# Altium footprint library ledclock-yassinn-V1.00.PcbLib: 13 footprints
Each footprint in its own frame and in the unit in brackets; x right, y up, seen from the top. Pads: shape width x height; smd on the part's side, far side on the other; paste and mask are expansions set on the pad; w line width, h text height; cw(c..) or ccw(c..) is an arc to the next point about the centre after c.
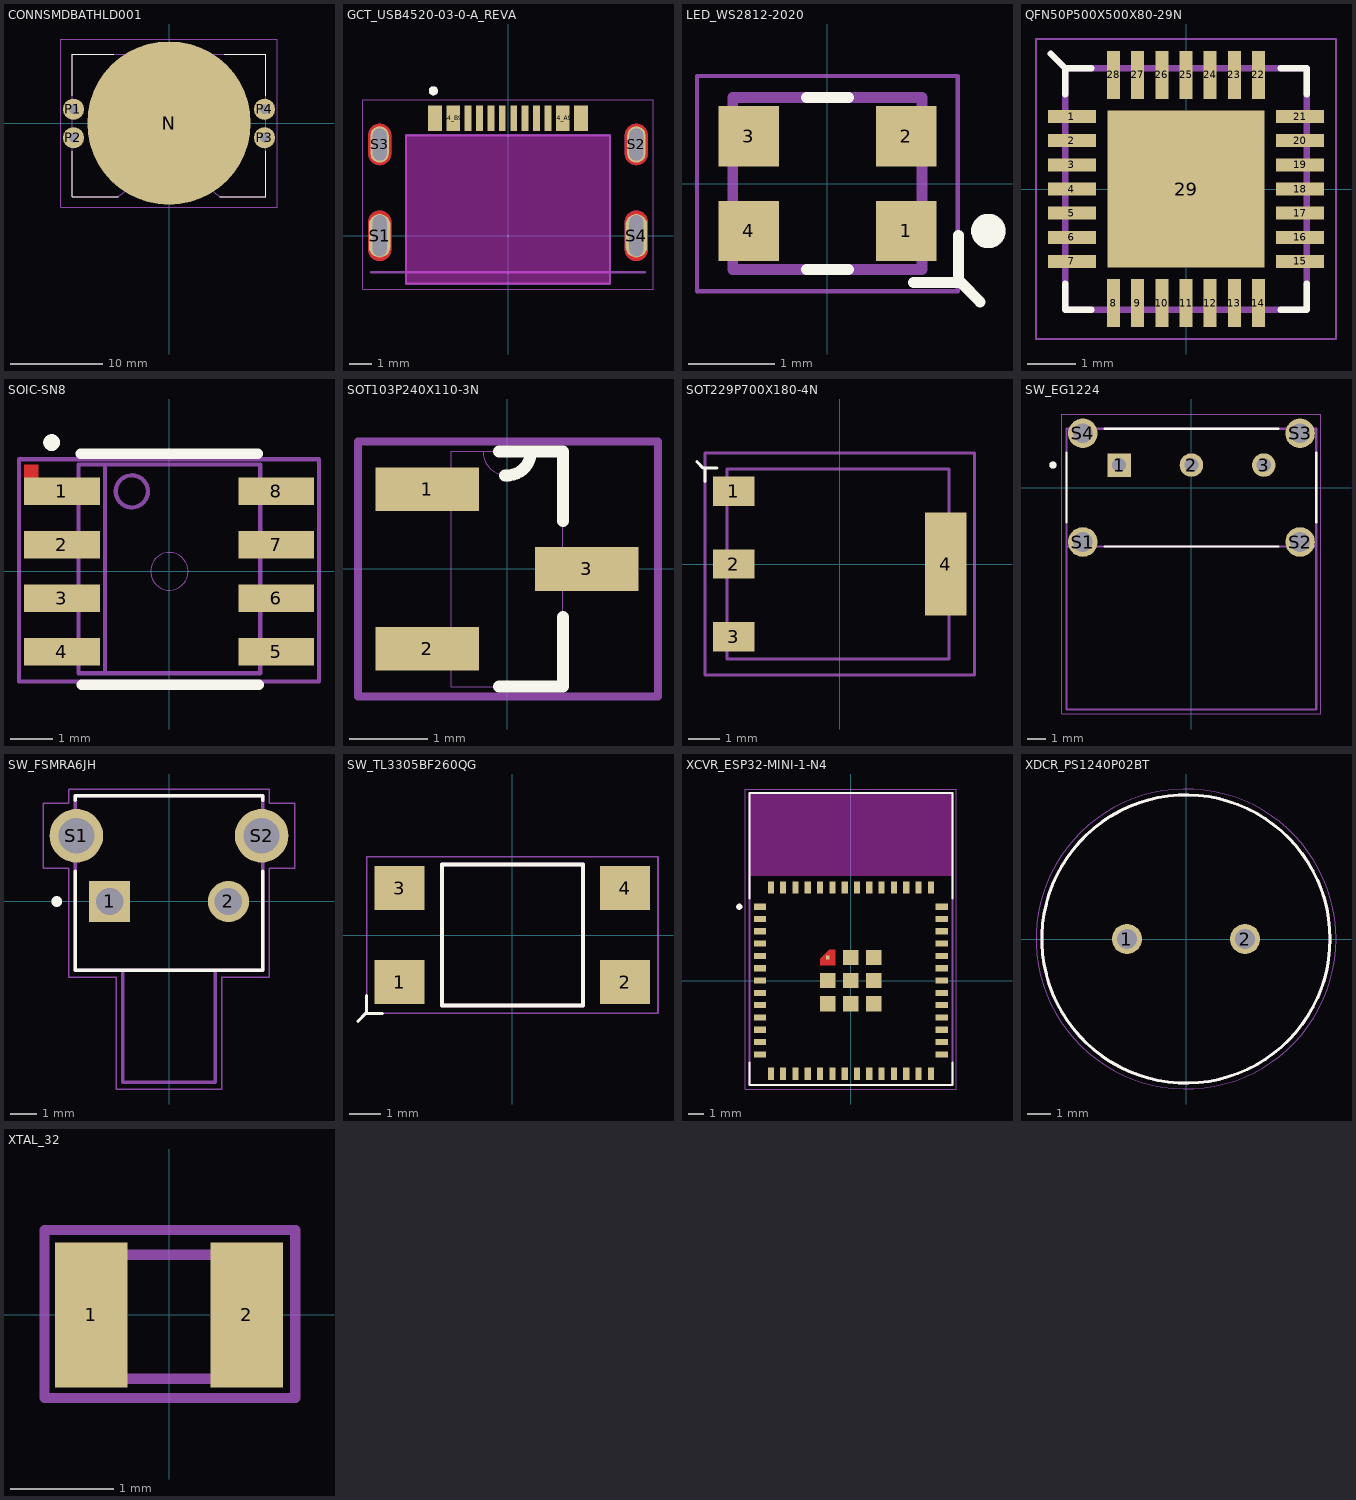
[diagram p0: the footprints below, top view; thin cyan lines are the x and y axes]

## CONNSMDBATHLD001 [mm] "Batt-Holder"
pads (5):
  round 17.8 smd paste-10: N(-0.007,0.005)
  round 2.3 hole 1: P1(-10.407,1.505) P2(-10.407,-1.595) P3(10.393,-1.595) P4(10.393,1.505)
Top Overlay:
  lines w0.127: -10.557,-3.065 -10.557,-7.995 -5.507,-7.995 ; -10.557,2.975 -10.557,7.505 -6.007,7.505 ; 5.493,-7.995 10.543,-7.995 10.543,-3.065 ; 5.993,7.505 10.543,7.505 10.543,2.975
Top Assembly:
  lines w0.127: -5.565,-8.043 cw(c0.064,-14.751) 0.064,-5.995 ; -5.507,-7.995 -10.557,-7.995 -10.557,7.505 10.543,7.505 10.543,-7.995 5.493,-7.995 ; -0.078,-5.995 cw(c-0.078,-14.751) 5.551,-8.043
  text ".Designator" at -4.447,11.12 h0.8
Top Courtyard:
  lines w0.05: -11.807,-9.145 -11.807,9.155 11.793,9.155 11.793,-9.145 -11.807,-9.145
3D body "step_temp.STEP": height 4.32, standoff -3.3, extent -10.548,-7.742 10.534,7.752

## GCT_USB4520-03-0-A_REVA [mm] "USB-C"
pads (16):
  rect 0.6x1.1 smd: A1_B12(-3.2,5.15) A4_B9(-2.4,5.15) B1_A12(3.2,5.15) B4_A9(2.4,5.15)
  rect 0.3x1.1 smd: A5(-1.25,5.15) A6(-0.25,5.15) A7(0.25,5.15) A8(1.25,5.15) B5(1.75,5.15) B6(0.75,5.15) B7(-0.75,5.15) B8(-1.75,5.15)
  oval 0.95x1.9 hole 0.6 slot 1.8 at 90 deg mask+0: S1(-5.62,0) S4(5.62,0)
  oval 0.8x1.6 hole 0.6 slot 1.4 at 90 deg mask+0: S2(5.62,4) S3(-5.62,4)
Top Layer:
  region: -5.594,4.899 -5.568,4.897 -5.542,4.894 -5.516,4.889 -5.491,4.883 -5.465,4.876 -5.441,4.867 -5.417,4.857 -5.393,4.846 -5.37,4.833 -5.348,4.819 -5.326,4.805 -5.305,4.789 -5.285,4.772 -5.266,4.754 -5.248,4.735 -5.231,4.715 -5.215,4.694 -5.201,4.672 -5.187,4.65 -5.174,4.627 -5.163,4.603 -5.153,4.579 -5.144,4.555 -5.137,4.529 -5.131,4.504 -5.126,4.478 -5.123,4.452 -5.121,4.426 -5.12,4.4 -5.12,3.6 -5.121,3.574 -5.123,3.548 -5.126,3.522 -5.131,3.496 -5.137,3.471 -5.144,3.445 -5.153,3.421 -5.163,3.397 -5.174,3.373 -5.187,3.35 -5.201,3.328 -5.215,3.306 -5.231,3.285 -5.248,3.265 -5.266,3.246 -5.285,3.228 -5.305,3.211 -5.326,3.195 -5.348,3.181 -5.37,3.167 -5.393,3.154 -5.417,3.143 -5.441,3.133 -5.465,3.124 -5.491,3.117 -5.516,3.111 -5.542,3.106 -5.568,3.103 -5.594,3.101 -5.62,3.1 -5.646,3.101 -5.672,3.103 -5.698,3.106 -5.724,3.111 -5.749,3.117 -5.775,3.124 -5.799,3.133 -5.823,3.143 -5.847,3.154 -5.87,3.167 -5.892,3.181 -5.914,3.195 -5.935,3.211 -5.955,3.228 -5.974,3.246 -5.992,3.265 -6.009,3.285 -6.025,3.306 -6.039,3.328 -6.053,3.35 -6.066,3.373 -6.077,3.397 -6.087,3.421 -6.096,3.445 -6.103,3.471 -6.109,3.496 -6.114,3.522 -6.117,3.548 -6.119,3.574 -6.12,3.6 -6.12,4.4 -6.119,4.426 -6.117,4.452 -6.114,4.478 -6.109,4.504 -6.103,4.529 -6.096,4.555 -6.087,4.579 -6.077,4.603 -6.066,4.627 -6.053,4.65 -6.039,4.672 -6.025,4.694 -6.009,4.715 -5.992,4.735 -5.974,4.754 -5.955,4.772 -5.935,4.789 -5.914,4.805 -5.892,4.819 -5.87,4.833 -5.847,4.846 -5.823,4.857 -5.799,4.867 -5.775,4.876 -5.749,4.883 -5.724,4.889 -5.698,4.894 -5.672,4.897 -5.646,4.899 -5.62,4.9
  region: 5.646,4.899 5.672,4.897 5.698,4.894 5.724,4.889 5.749,4.883 5.775,4.876 5.799,4.867 5.823,4.857 5.847,4.846 5.87,4.833 5.892,4.819 5.914,4.805 5.935,4.789 5.955,4.772 5.974,4.754 5.992,4.735 6.009,4.715 6.025,4.694 6.039,4.672 6.053,4.65 6.066,4.627 6.077,4.603 6.087,4.579 6.096,4.555 6.103,4.529 6.109,4.504 6.114,4.478 6.117,4.452 6.119,4.426 6.12,4.4 6.12,3.6 6.119,3.574 6.117,3.548 6.114,3.522 6.109,3.496 6.103,3.471 6.096,3.445 6.087,3.421 6.077,3.397 6.066,3.373 6.053,3.35 6.039,3.328 6.025,3.306 6.009,3.285 5.992,3.265 5.974,3.246 5.955,3.228 5.935,3.211 5.914,3.195 5.892,3.181 5.87,3.167 5.847,3.154 5.823,3.143 5.799,3.133 5.775,3.124 5.749,3.117 5.724,3.111 5.698,3.106 5.672,3.103 5.646,3.101 5.62,3.1 5.594,3.101 5.568,3.103 5.542,3.106 5.516,3.111 5.491,3.117 5.465,3.124 5.441,3.133 5.417,3.143 5.393,3.154 5.37,3.167 5.348,3.181 5.326,3.195 5.305,3.211 5.285,3.228 5.266,3.246 5.248,3.265 5.231,3.285 5.215,3.306 5.201,3.328 5.187,3.35 5.174,3.373 5.163,3.397 5.153,3.421 5.144,3.445 5.137,3.471 5.131,3.496 5.126,3.522 5.123,3.548 5.121,3.574 5.12,3.6 5.12,4.4 5.121,4.426 5.123,4.452 5.126,4.478 5.131,4.504 5.137,4.529 5.144,4.555 5.153,4.579 5.163,4.603 5.174,4.627 5.187,4.65 5.201,4.672 5.215,4.694 5.231,4.715 5.248,4.735 5.266,4.754 5.285,4.772 5.305,4.789 5.326,4.805 5.348,4.819 5.37,4.833 5.393,4.846 5.417,4.857 5.441,4.867 5.465,4.876 5.491,4.883 5.516,4.889 5.542,4.894 5.568,4.897 5.594,4.899 5.62,4.9
  region: -5.594,1.099 -5.568,1.097 -5.542,1.094 -5.516,1.089 -5.491,1.083 -5.465,1.076 -5.441,1.067 -5.417,1.057 -5.393,1.046 -5.37,1.033 -5.348,1.019 -5.326,1.005 -5.305,0.989 -5.285,0.972 -5.266,0.954 -5.248,0.935 -5.231,0.915 -5.215,0.894 -5.201,0.872 -5.187,0.85 -5.174,0.827 -5.163,0.803 -5.153,0.779 -5.144,0.755 -5.137,0.729 -5.131,0.704 -5.126,0.678 -5.123,0.652 -5.121,0.626 -5.12,0.6 -5.12,-0.6 -5.121,-0.626 -5.123,-0.652 -5.126,-0.678 -5.131,-0.704 -5.137,-0.729 -5.144,-0.755 -5.153,-0.779 -5.163,-0.803 -5.174,-0.827 -5.187,-0.85 -5.201,-0.872 -5.215,-0.894 -5.231,-0.915 -5.248,-0.935 -5.266,-0.954 -5.285,-0.972 -5.305,-0.989 -5.326,-1.005 -5.348,-1.019 -5.37,-1.033 -5.393,-1.046 -5.417,-1.057 -5.441,-1.067 -5.465,-1.076 -5.491,-1.083 -5.516,-1.089 -5.542,-1.094 -5.568,-1.097 -5.594,-1.099 -5.62,-1.1 -5.646,-1.099 -5.672,-1.097 -5.698,-1.094 -5.724,-1.089 -5.749,-1.083 -5.775,-1.076 -5.799,-1.067 -5.823,-1.057 -5.847,-1.046 -5.87,-1.033 -5.892,-1.019 -5.914,-1.005 -5.935,-0.989 -5.955,-0.972 -5.974,-0.954 -5.992,-0.935 -6.009,-0.915 -6.025,-0.894 -6.039,-0.872 -6.053,-0.85 -6.066,-0.827 -6.077,-0.803 -6.087,-0.779 -6.096,-0.755 -6.103,-0.729 -6.109,-0.704 -6.114,-0.678 -6.117,-0.652 -6.119,-0.626 -6.12,-0.6 -6.12,0.6 -6.119,0.626 -6.117,0.652 -6.114,0.678 -6.109,0.704 -6.103,0.729 -6.096,0.755 -6.087,0.779 -6.077,0.803 -6.066,0.827 -6.053,0.85 -6.039,0.872 -6.025,0.894 -6.009,0.915 -5.992,0.935 -5.974,0.954 -5.955,0.972 -5.935,0.989 -5.914,1.005 -5.892,1.019 -5.87,1.033 -5.847,1.046 -5.823,1.057 -5.799,1.067 -5.775,1.076 -5.749,1.083 -5.724,1.089 -5.698,1.094 -5.672,1.097 -5.646,1.099 -5.62,1.1
  region: 5.646,1.099 5.672,1.097 5.698,1.094 5.724,1.089 5.749,1.083 5.775,1.076 5.799,1.067 5.823,1.057 5.847,1.046 5.87,1.033 5.892,1.019 5.914,1.005 5.935,0.989 5.955,0.972 5.974,0.954 5.992,0.935 6.009,0.915 6.025,0.894 6.039,0.872 6.053,0.85 6.066,0.827 6.077,0.803 6.087,0.779 6.096,0.755 6.103,0.729 6.109,0.704 6.114,0.678 6.117,0.652 6.119,0.626 6.12,0.6 6.12,-0.6 6.119,-0.626 6.117,-0.652 6.114,-0.678 6.109,-0.704 6.103,-0.729 6.096,-0.755 6.087,-0.779 6.077,-0.803 6.066,-0.827 6.053,-0.85 6.039,-0.872 6.025,-0.894 6.009,-0.915 5.992,-0.935 5.974,-0.954 5.955,-0.972 5.935,-0.989 5.914,-1.005 5.892,-1.019 5.87,-1.033 5.847,-1.046 5.823,-1.057 5.799,-1.067 5.775,-1.076 5.749,-1.083 5.724,-1.089 5.698,-1.094 5.672,-1.097 5.646,-1.099 5.62,-1.1 5.594,-1.099 5.568,-1.097 5.542,-1.094 5.516,-1.089 5.491,-1.083 5.465,-1.076 5.441,-1.067 5.417,-1.057 5.393,-1.046 5.37,-1.033 5.348,-1.019 5.326,-1.005 5.305,-0.989 5.285,-0.972 5.266,-0.954 5.248,-0.935 5.231,-0.915 5.215,-0.894 5.201,-0.872 5.187,-0.85 5.174,-0.827 5.163,-0.803 5.153,-0.779 5.144,-0.755 5.137,-0.729 5.131,-0.704 5.126,-0.678 5.123,-0.652 5.121,-0.626 5.12,-0.6 5.12,0.6 5.121,0.626 5.123,0.652 5.126,0.678 5.131,0.704 5.137,0.729 5.144,0.755 5.153,0.779 5.163,0.803 5.174,0.827 5.187,0.85 5.201,0.872 5.215,0.894 5.231,0.915 5.248,0.935 5.266,0.954 5.285,0.972 5.305,0.989 5.326,1.005 5.348,1.019 5.37,1.033 5.393,1.046 5.417,1.057 5.441,1.067 5.465,1.076 5.491,1.083 5.516,1.089 5.542,1.094 5.568,1.097 5.594,1.099 5.62,1.1
Bottom Layer:
  region: -5.594,4.899 -5.568,4.897 -5.542,4.894 -5.516,4.889 -5.491,4.883 -5.465,4.876 -5.441,4.867 -5.417,4.857 -5.393,4.846 -5.37,4.833 -5.348,4.819 -5.326,4.805 -5.305,4.789 -5.285,4.772 -5.266,4.754 -5.248,4.735 -5.231,4.715 -5.215,4.694 -5.201,4.672 -5.187,4.65 -5.174,4.627 -5.163,4.603 -5.153,4.579 -5.144,4.555 -5.137,4.529 -5.131,4.504 -5.126,4.478 -5.123,4.452 -5.121,4.426 -5.12,4.4 -5.12,3.6 -5.121,3.574 -5.123,3.548 -5.126,3.522 -5.131,3.496 -5.137,3.471 -5.144,3.445 -5.153,3.421 -5.163,3.397 -5.174,3.373 -5.187,3.35 -5.201,3.328 -5.215,3.306 -5.231,3.285 -5.248,3.265 -5.266,3.246 -5.285,3.228 -5.305,3.211 -5.326,3.195 -5.348,3.181 -5.37,3.167 -5.393,3.154 -5.417,3.143 -5.441,3.133 -5.465,3.124 -5.491,3.117 -5.516,3.111 -5.542,3.106 -5.568,3.103 -5.594,3.101 -5.62,3.1 -5.646,3.101 -5.672,3.103 -5.698,3.106 -5.724,3.111 -5.749,3.117 -5.775,3.124 -5.799,3.133 -5.823,3.143 -5.847,3.154 -5.87,3.167 -5.892,3.181 -5.914,3.195 -5.935,3.211 -5.955,3.228 -5.974,3.246 -5.992,3.265 -6.009,3.285 -6.025,3.306 -6.039,3.328 -6.053,3.35 -6.066,3.373 -6.077,3.397 -6.087,3.421 -6.096,3.445 -6.103,3.471 -6.109,3.496 -6.114,3.522 -6.117,3.548 -6.119,3.574 -6.12,3.6 -6.12,4.4 -6.119,4.426 -6.117,4.452 -6.114,4.478 -6.109,4.504 -6.103,4.529 -6.096,4.555 -6.087,4.579 -6.077,4.603 -6.066,4.627 -6.053,4.65 -6.039,4.672 -6.025,4.694 -6.009,4.715 -5.992,4.735 -5.974,4.754 -5.955,4.772 -5.935,4.789 -5.914,4.805 -5.892,4.819 -5.87,4.833 -5.847,4.846 -5.823,4.857 -5.799,4.867 -5.775,4.876 -5.749,4.883 -5.724,4.889 -5.698,4.894 -5.672,4.897 -5.646,4.899 -5.62,4.9
  region: 5.646,4.899 5.672,4.897 5.698,4.894 5.724,4.889 5.749,4.883 5.775,4.876 5.799,4.867 5.823,4.857 5.847,4.846 5.87,4.833 5.892,4.819 5.914,4.805 5.935,4.789 5.955,4.772 5.974,4.754 5.992,4.735 6.009,4.715 6.025,4.694 6.039,4.672 6.053,4.65 6.066,4.627 6.077,4.603 6.087,4.579 6.096,4.555 6.103,4.529 6.109,4.504 6.114,4.478 6.117,4.452 6.119,4.426 6.12,4.4 6.12,3.6 6.119,3.574 6.117,3.548 6.114,3.522 6.109,3.496 6.103,3.471 6.096,3.445 6.087,3.421 6.077,3.397 6.066,3.373 6.053,3.35 6.039,3.328 6.025,3.306 6.009,3.285 5.992,3.265 5.974,3.246 5.955,3.228 5.935,3.211 5.914,3.195 5.892,3.181 5.87,3.167 5.847,3.154 5.823,3.143 5.799,3.133 5.775,3.124 5.749,3.117 5.724,3.111 5.698,3.106 5.672,3.103 5.646,3.101 5.62,3.1 5.594,3.101 5.568,3.103 5.542,3.106 5.516,3.111 5.491,3.117 5.465,3.124 5.441,3.133 5.417,3.143 5.393,3.154 5.37,3.167 5.348,3.181 5.326,3.195 5.305,3.211 5.285,3.228 5.266,3.246 5.248,3.265 5.231,3.285 5.215,3.306 5.201,3.328 5.187,3.35 5.174,3.373 5.163,3.397 5.153,3.421 5.144,3.445 5.137,3.471 5.131,3.496 5.126,3.522 5.123,3.548 5.121,3.574 5.12,3.6 5.12,4.4 5.121,4.426 5.123,4.452 5.126,4.478 5.131,4.504 5.137,4.529 5.144,4.555 5.153,4.579 5.163,4.603 5.174,4.627 5.187,4.65 5.201,4.672 5.215,4.694 5.231,4.715 5.248,4.735 5.266,4.754 5.285,4.772 5.305,4.789 5.326,4.805 5.348,4.819 5.37,4.833 5.393,4.846 5.417,4.857 5.441,4.867 5.465,4.876 5.491,4.883 5.516,4.889 5.542,4.894 5.568,4.897 5.594,4.899 5.62,4.9
  region: 5.646,1.099 5.672,1.097 5.698,1.094 5.724,1.089 5.749,1.083 5.775,1.076 5.799,1.067 5.823,1.057 5.847,1.046 5.87,1.033 5.892,1.019 5.914,1.005 5.935,0.989 5.955,0.972 5.974,0.954 5.992,0.935 6.009,0.915 6.025,0.894 6.039,0.872 6.053,0.85 6.066,0.827 6.077,0.803 6.087,0.779 6.096,0.755 6.103,0.729 6.109,0.704 6.114,0.678 6.117,0.652 6.119,0.626 6.12,0.6 6.12,-0.6 6.119,-0.626 6.117,-0.652 6.114,-0.678 6.109,-0.704 6.103,-0.729 6.096,-0.755 6.087,-0.779 6.077,-0.803 6.066,-0.827 6.053,-0.85 6.039,-0.872 6.025,-0.894 6.009,-0.915 5.992,-0.935 5.974,-0.954 5.955,-0.972 5.935,-0.989 5.914,-1.005 5.892,-1.019 5.87,-1.033 5.847,-1.046 5.823,-1.057 5.799,-1.067 5.775,-1.076 5.749,-1.083 5.724,-1.089 5.698,-1.094 5.672,-1.097 5.646,-1.099 5.62,-1.1 5.594,-1.099 5.568,-1.097 5.542,-1.094 5.516,-1.089 5.491,-1.083 5.465,-1.076 5.441,-1.067 5.417,-1.057 5.393,-1.046 5.37,-1.033 5.348,-1.019 5.326,-1.005 5.305,-0.989 5.285,-0.972 5.266,-0.954 5.248,-0.935 5.231,-0.915 5.215,-0.894 5.201,-0.872 5.187,-0.85 5.174,-0.827 5.163,-0.803 5.153,-0.779 5.144,-0.755 5.137,-0.729 5.131,-0.704 5.126,-0.678 5.123,-0.652 5.121,-0.626 5.12,-0.6 5.12,0.6 5.121,0.626 5.123,0.652 5.126,0.678 5.131,0.704 5.137,0.729 5.144,0.755 5.153,0.779 5.163,0.803 5.174,0.827 5.187,0.85 5.201,0.872 5.215,0.894 5.231,0.915 5.248,0.935 5.266,0.954 5.285,0.972 5.305,0.989 5.326,1.005 5.348,1.019 5.37,1.033 5.393,1.046 5.417,1.057 5.441,1.067 5.465,1.076 5.491,1.083 5.516,1.089 5.542,1.094 5.568,1.097 5.594,1.099 5.62,1.1
  region: -5.594,1.099 -5.568,1.097 -5.542,1.094 -5.516,1.089 -5.491,1.083 -5.465,1.076 -5.441,1.067 -5.417,1.057 -5.393,1.046 -5.37,1.033 -5.348,1.019 -5.326,1.005 -5.305,0.989 -5.285,0.972 -5.266,0.954 -5.248,0.935 -5.231,0.915 -5.215,0.894 -5.201,0.872 -5.187,0.85 -5.174,0.827 -5.163,0.803 -5.153,0.779 -5.144,0.755 -5.137,0.729 -5.131,0.704 -5.126,0.678 -5.123,0.652 -5.121,0.626 -5.12,0.6 -5.12,-0.6 -5.121,-0.626 -5.123,-0.652 -5.126,-0.678 -5.131,-0.704 -5.137,-0.729 -5.144,-0.755 -5.153,-0.779 -5.163,-0.803 -5.174,-0.827 -5.187,-0.85 -5.201,-0.872 -5.215,-0.894 -5.231,-0.915 -5.248,-0.935 -5.266,-0.954 -5.285,-0.972 -5.305,-0.989 -5.326,-1.005 -5.348,-1.019 -5.37,-1.033 -5.393,-1.046 -5.417,-1.057 -5.441,-1.067 -5.465,-1.076 -5.491,-1.083 -5.516,-1.089 -5.542,-1.094 -5.568,-1.097 -5.594,-1.099 -5.62,-1.1 -5.646,-1.099 -5.672,-1.097 -5.698,-1.094 -5.724,-1.089 -5.749,-1.083 -5.775,-1.076 -5.799,-1.067 -5.823,-1.057 -5.847,-1.046 -5.87,-1.033 -5.892,-1.019 -5.914,-1.005 -5.935,-0.989 -5.955,-0.972 -5.974,-0.954 -5.992,-0.935 -6.009,-0.915 -6.025,-0.894 -6.039,-0.872 -6.053,-0.85 -6.066,-0.827 -6.077,-0.803 -6.087,-0.779 -6.096,-0.755 -6.103,-0.729 -6.109,-0.704 -6.114,-0.678 -6.117,-0.652 -6.119,-0.626 -6.12,-0.6 -6.12,0.6 -6.119,0.626 -6.117,0.652 -6.114,0.678 -6.109,0.704 -6.103,0.729 -6.096,0.755 -6.087,0.779 -6.077,0.803 -6.066,0.827 -6.053,0.85 -6.039,0.872 -6.025,0.894 -6.009,0.915 -5.992,0.935 -5.974,0.954 -5.955,0.972 -5.935,0.989 -5.914,1.005 -5.892,1.019 -5.87,1.033 -5.847,1.046 -5.823,1.057 -5.799,1.067 -5.775,1.076 -5.749,1.083 -5.724,1.089 -5.698,1.094 -5.672,1.097 -5.646,1.099 -5.62,1.1
Top Overlay:
  circle w0.2: c-3.27,6.35 r0.1
Top Solder:
  drawing of 4 lines, arcs and shapes, not listed
Bottom Solder:
  drawing of 4 lines, arcs and shapes, not listed
Keep-Out Layer:
  board cut-out: -4.475,-2.1 -4.475,4.4 4.475,4.4 4.475,-2.1
Top Assembly:
  circle w0.2: c-3.27,6.35 r0.1
  lines w0.1: -6,-1.6 6,-1.6 ; -4.47,-2.1 -4.47,4.4 4.47,4.4 4.47,-2.1 -4.47,-2.1
  text ".Designator" at -2.1,6.375 h0.8
Top Courtyard:
  lines w0.05: -6.37,-2.35 -6.37,5.95 6.37,5.95 6.37,-2.35 -6.37,-2.35
3D body "step_temp.STEP": height 1.06, standoff -2.1, extent -5.77,-2.1 5.77,5.1

## LED_WS2812-2020 [mm]
height 0.84
pads (4):
  rect 0.7x0.7 smd: 1(0.915,-0.55) 2(0.915,0.55) 3(-0.915,0.55) 4(-0.915,-0.55)
Top Overlay:
  circle w0.2: c1.87,-0.55 r0.1
  lines w0.127: -0.245,-1 0.245,-1 ; -0.245,1 0.245,1 ; 1.525,-0.6 1.525,-1.15 1,-1.15 1.55,-1.15 1.775,-1.375
Top Assembly:
  circle w0.2: c1.87,-0.55 r0.1
  lines w0.127: -1.1,-1 1.1,-1 1.1,1 -1.1,1 -1.1,-1
  text ".Designator" at -1.447,1.72 h0.8
Top Courtyard:
  lines w0.05: -1.515,-1.25 -1.515,1.25 1.515,1.25 1.515,-1.25 -1.515,-1.25
3D body "step_temp.STEP": height 0.84, standoff 0, extent -1.1,-1 1.1,1

## QFN50P500X500X80-29N [mm]
pads (29):
  rect 0.99x0.27 smd: 1(-2.36,1.5) 2(-2.36,1) 3(-2.36,0.5) 4(-2.36,0) 5(-2.36,-0.5) 6(-2.36,-1) 7(-2.36,-1.5) 15(2.36,-1.5) 16(2.36,-1) 17(2.36,-0.5) 18(2.36,0) 19(2.36,0.5) 20(2.36,1) 21(2.36,1.5)
  rect 0.27x0.99 smd: 8(-1.5,-2.36) 9(-1,-2.36) 10(-0.5,-2.36) 11(0,-2.36) 12(0.5,-2.36) 13(1,-2.36) 14(1.5,-2.36) 22(1.5,2.36) 23(1,2.36) 24(0.5,2.36) 25(0,2.36) 26(-0.5,2.36) 27(-1,2.36) 28(-1.5,2.36)
  rect 3.25x3.25 smd paste-0.597: 29(0,0)
Top Overlay:
  lines w0.127: -2.8,2.8 -2.5,2.5 ; -2.5,-1.955 -2.5,-2.5 -1.955,-2.5 ; -2.5,1.955 -2.5,2.5 ; -1.955,2.5 -2.5,2.5 ; 1.955,-2.5 2.5,-2.5 2.5,-1.955 ; 1.955,2.5 2.5,2.5 2.5,1.955
Top Assembly:
  lines w0.127: -2.8,2.8 -2.5,2.5 ; -2.5,2.5 -2.5,-2.5 2.5,-2.5 2.5,2.5 -2.5,2.5
  text ".Designator" at -3.047,3.52 h0.8
Top Courtyard:
  lines w0.05: -3.105,-3.105 3.105,-3.105 3.105,3.105 -3.105,3.105 -3.105,-3.105
3D body "step_temp.STEP": height 0.38, standoff -0.43, extent -2.5,-2.5 2.5,2.5

## SOIC-SN8 [mm] "RTC"
pads (8):
  rect 1.8x0.65 smd: 1(-2.55,1.9) 2(-2.55,0.63) 3(-2.55,-0.64) 4(-2.55,-1.91) 5(2.54,-1.91) 6(2.54,-0.64) 7(2.54,0.63) 8(2.54,1.9)
Top Layer:
  rectangle: -3.45,2.209 -3.1,2.535
Top Overlay:
  circle w0.2: c-2.794,3.059 r0.1
  lines w0.25: -2.1,2.795 2.1,2.795 ; -2.076,-2.691 2.124,-2.691
Top Solder:
  rectangle: -3.531,2.294 -3.023,2.624
Top Assembly:
  circle w0.1: c-0.889,1.9 r0.381
  circle w0.025: c0,0 r0.447
  lines w0.1: -1.524,-2.418 -1.524,2.535 ; -2.159,-2.418 -2.159,2.535 2.159,2.535 2.159,-2.418 -2.159,-2.418
  text ".Designator" at -4.314,-4.463 h1
Top Courtyard:
  lines w0.1: -3.569,-2.616 3.556,-2.616 3.556,2.662 -3.569,2.662 -3.569,-2.616
3D body "MS-012AA.stp": height 1.75, standoff 0, extent -3.1,-2.441 3.1,2.559

## SOT103P240X110-3N [mil] "transistor"
pads (3):
  rect 52x22 smd: 1(-40,40) 2(-40,-40) 3(40,0)
Top Overlay:
  lines w6: -4,-59 28,-59 28,-24 ; -4,59 12,59 28,59 28,24 ; -1.04,47 ccw(c0,58.96) 12,58.96
Top Assembly:
  lines w0: -28,-50 -49,-50 -49,-30 -28,-30 ; -28,-50 -28,-30 ; -28,-50 -28,-59 28,-59 28,-10 ; -28,-30 -28,30 ; -28,30 -49,30 -49,50 -28,50 ; -28,30 -28,50 ; -28,50 -28,59 -12,59 ; -12,59 ccw(c0,59) 12,59 ; -12,59 12,59 ; 12,59 28,59 28,10 ; 28,-10 49,-10 49,10 28,10 ; 28,-10 28,10
  text ".Designator" at -55.12,90.22 h31.5
Top Courtyard:
  lines w3.94: -74.8,-63.98 75.79,-63.98 75.79,63.98 -74.8,63.98 -74.8,-63.98
3D body "step_temp.STEP": height 44.09, standoff 0, extent -47.64,-59.06 47.64,59.06

## SOT229P700X180-4N [mm] "Voltage Reg"
height 1.8
pads (4):
  rect 1.31x0.93 smd: 1(-3.345,2.29) 2(-3.345,0) 3(-3.345,-2.29)
  rect 1.31x3.24 smd: 4(3.345,0)
Top Overlay:
  lines w0.1: -4.5,3.225 -4.3,3.025 -3.875,3.025 ; -4.25,2.6 -4.25,3
Top Assembly:
  lines w0.1: -3.55,-3 -3.55,3 3.45,3 3.45,-3 -3.55,-3
  text ".Designator" at -3.7,4.167 h0.8
Top Courtyard:
  lines w0.1: -4.25,-3.502 4.25,-3.502 4.25,3.502 -4.25,3.502 -4.25,-3.502
3D body "step_temp.STEP": height 1.8, standoff 0, extent -3.499,-3.251 3.499,3.251

## SW_EG1224 [mm] "Switch alim"
height 8.5
pads (7):
  rect 1.298x1.298 / inner round 1.298 / far side rect 1.298x1.298 hole 0.79: 1(-4,1.25)
  round 1.298 hole 0.79: 2(0,1.25) 3(4,1.25)
  round 1.635 hole 1.09: S1(-6,-3) S2(6,-3) S3(6,3) S4(-6,3)
Top Overlay:
  circle w0.2: c-7.65,1.25 r0.1
  lines w0.127: -6.9,-1.926 -6.9,1.926 ; -4.8,-3.25 4.8,-3.25 ; -4.8,3.25 4.8,3.25 ; 6.9,-1.926 6.9,1.926
Top Assembly:
  circle w0.2: c-7.65,1.25 r0.1
  lines w0.127: -6.9,-3.25 6.9,-3.25 ; -6.9,-3.25 -6.9,3.25 6.9,3.25 6.9,-3.25 ; -6.9,-3.25 -6.9,-12.25 6.9,-12.25 6.9,-3.25
  text ".Designator" at -6.647,4.42 h0.8
Top Courtyard:
  lines w0.05: -7.15,-12.5 7.15,-12.5 7.15,4.07 -7.15,4.07 -7.15,-12.5

## SW_FSMRA6JH [mm] "btn-modes"
height 7.01
pads (4):
  rect 1.561x1.561 / inner round 1.561 / far side rect 1.561x1.561 hole 1.041: 1(-2.25,0)
  round 1.561 hole 1.041: 2(2.25,0)
  round 2.026 hole 1.351: S1(-3.505,2.49) S2(3.505,2.49)
Top Overlay:
  circle w0.2: c-4.25,0 r0.1
  lines w0.127: -3.555,1.14 -3.555,-2.61 3.555,-2.61 3.555,1.14 ; -3.555,3.84 -3.555,4.01 3.555,4.01 3.555,3.84
Top Assembly:
  circle w0.2: c-4.25,0 r0.1
  lines w0.127: -1.755,-2.61 -1.755,-6.85 1.755,-6.85 1.755,-2.61 ; -1.755,-2.61 -3.555,-2.61 -3.555,4.01 3.555,4.01 3.555,-2.61 1.755,-2.61 ; -1.755,-2.61 1.755,-2.61
  text ".Designator" at -3.947,4.62 h0.8
Top Courtyard:
  lines w0.05: -4.77,1.264 -4.77,3.717 -3.805,3.717 -3.805,4.26 3.805,4.26 3.805,3.717 4.77,3.717 4.77,1.264 3.805,1.264 3.805,-2.86 2.005,-2.86 2.005,-7.1 -2.005,-7.1 -2.005,-2.86 -3.805,-2.86 -3.805,1.264 -4.77,1.264
3D body "step_temp.STEP": height 7, standoff -3.52, extent -4.204,-6.742 4.204,4.117

## SW_TL3305BF260QG [mm]
height 5
pads (4):
  rect 1.6x1.4 smd: 1(-3.6,-1.5) 2(3.6,-1.5) 3(-3.6,1.5) 4(3.6,1.5)
Top Overlay:
  lines w0.1: -4.925,-2.75 -4.675,-2.5 -4.15,-2.5 -4.625,-2.5 -4.65,-2.475 -4.65,-1.925
  lines w0.127: -2.25,-2.25 -2.25,2.25 2.25,2.25 2.25,-2.25 -2.25,-2.25
Top Assembly:
  lines w0.127: -2.25,-2.25 2.25,-2.25 2.25,2.25 -2.25,2.25 -2.25,-2.25
  text ".Designator" at -4.247,2.92 h0.8
Top Courtyard:
  lines w0.05: -4.65,-2.5 4.65,-2.5 4.65,2.5 -4.65,2.5 -4.65,-2.5
3D body "step_temp.STEP": height 5, standoff 0, extent -3.75,-2.25 3.75,2.25

## XCVR_ESP32-MINI-1-N4 [mm]
height 2.65
pads (63):
  rect 0.8x0.4 smd: 1(-5.9,4.8) 2(-5.9,4) 3(-5.9,3.2) 4(-5.9,2.4) 5(-5.9,1.6) 6(-5.9,0.8) 7(-5.9,0) 8(-5.9,-0.8) 9(-5.9,-1.6) 10(-5.9,-2.4) 11(-5.9,-3.2) 12(-5.9,-4) 13(-5.9,-4.8) 28(5.9,-4.8) 29(5.9,-4) 30(5.9,-3.2) 31(5.9,-2.4) 32(5.9,-1.6) 33(5.9,-0.8) 34(5.9,0) 35(5.9,0.8) 36(5.9,1.6) 37(5.9,2.4) 38(5.9,3.2) 39(5.9,4) 40(5.9,4.8)
  rect 0.4x0.8 smd: 14(-5.2,-6.05) 15(-4.4,-6.05) 16(-3.6,-6.05) 17(-2.8,-6.05) 18(-2,-6.05) 19(-1.2,-6.05) 20(-0.4,-6.05) 21(0.4,-6.05) 22(1.2,-6.05) 23(2,-6.05) 24(2.8,-6.05) 25(3.6,-6.05) 26(4.4,-6.05) 27(5.2,-6.05) 41(5.2,6.05) 42(4.4,6.05) 43(3.6,6.05) 44(2.8,6.05) 45(2,6.05) 46(1.2,6.05) 47(0.4,6.05) 48(-0.4,6.05) 49(-1.2,6.05) 50(-2,6.05) 51(-2.8,6.05) 52(-3.6,6.05) 53(-4.4,6.05) 54(-5.2,6.05)
  rect 0.25x0.25 smd paste-1 mask+0: 55_1(-1.5,1.5)
  rect 1x1 smd: 55_2(0,1.5) 55_3(1.5,1.5) 55_4(-1.5,0) 55_5(0,0) 55_6(1.5,0) 55_7(-1.5,-1.5) 55_8(0,-1.5) 55_9(1.5,-1.5)
Top Layer:
  region: -1,1 -2,1 -2,1.4 -1.4,2 -1,2
Top Overlay:
  circle w0.2: c-7.25,4.8 r0.1
  lines w0.127: -6.6,-5.32 -6.6,-6.8 6.6,-6.8 6.6,-5.32 ; -6.6,5.32 -6.6,12.2 6.6,12.2 6.6,5.32
Top Paste:
  region: -1,1.02 -1,1 -2,1 -2,1.4 -1.4,2 -1,2
Top Solder:
  region: -0.9,0.9 -2.1,0.9 -2.1,1.45 -1.45,2.1 -0.9,2.1
Keep-Out Layer:
  region: 6.6,6.8 -6.6,6.8 -6.6,12.2 6.6,12.2
Top Assembly:
  circle w0.2: c-7.25,4.8 r0.1
  lines w0.127: -6.6,-6.8 -6.6,12.2 6.6,12.2 6.6,-6.8 -6.6,-6.8
  text ".Designator" at -5.447,13.12 h0.8
Top Courtyard:
  lines w0.05: -6.85,-7.05 -6.85,12.45 6.85,12.45 6.85,-7.05 -6.85,-7.05
3D body "step_temp.STEP": height 2.55, standoff 0, extent -6.6,-6.7 6.6,12.3

## XDCR_PS1240P02BT [mm] "Buzzer"
pads (2):
  round 1.28 hole 0.85: 1(-2.5,0) 2(2.5,0)
Top Overlay:
  circle w0.127: c0,0 r6.1
Top Assembly:
  circle w0.127: c0,0 r6.1
  text ".Designator" at -3.547,6.92 h0.8
Top Courtyard:
  circle w0.05: c0,0 r6.35

## XTAL_32 [mm] "Quartz"
pads (2):
  rect 0.7x1.4 smd: 1(-0.75,0) 2(0.75,0)
Top Assembly:
  lines w0.1: -1.032,-0.618 -1.032,0.582 0.968,0.582 0.968,-0.618 -1.032,-0.618
  text ".Designator" at -2.225,1.492 h0.8
Top Courtyard:
  lines w0.1: -1.203,-0.804 1.222,-0.804 1.222,0.821 -1.203,0.821 -1.203,-0.804
3D body "step_temp.STEP": height 0.5, standoff 0, extent -0.797,-0.513 0.803,0.487